# EAGLE library part FILTER_NETWORK (library dslparts)
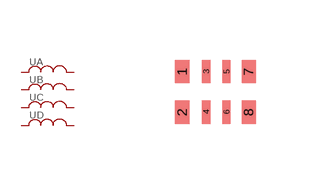
[diagram p11: symbol with the pads of FILTER_NETWORK; footprint FILTER_NETWORK]

Designator prefix -; gates A=FILTER B=FILTER C=FILTER D=FILTER

## FILTER_NETWORK  [FILTER_NETWORK]
1  A:P$1
2  A:P$2
3  B:P$1
4  B:P$2
5  C:P$1
6  C:P$2
7  D:P$1
8  D:P$2

## Footprint FILTER_NETWORK (pad centres in mm)
smd 0.356 x 0.584: 1 -0.851,0.508; 2 -0.851,-0.508; 7 0.813,0.508; 8 0.813,-0.508
smd 0.203 x 0.584: 3 -0.254,0.508; 4 -0.254,-0.508; 5 0.254,0.508; 6 0.254,-0.508